# Altium integrated library Capacitor - Aluminium TH.IntLib: 4591 symbols (part 38 of 68)
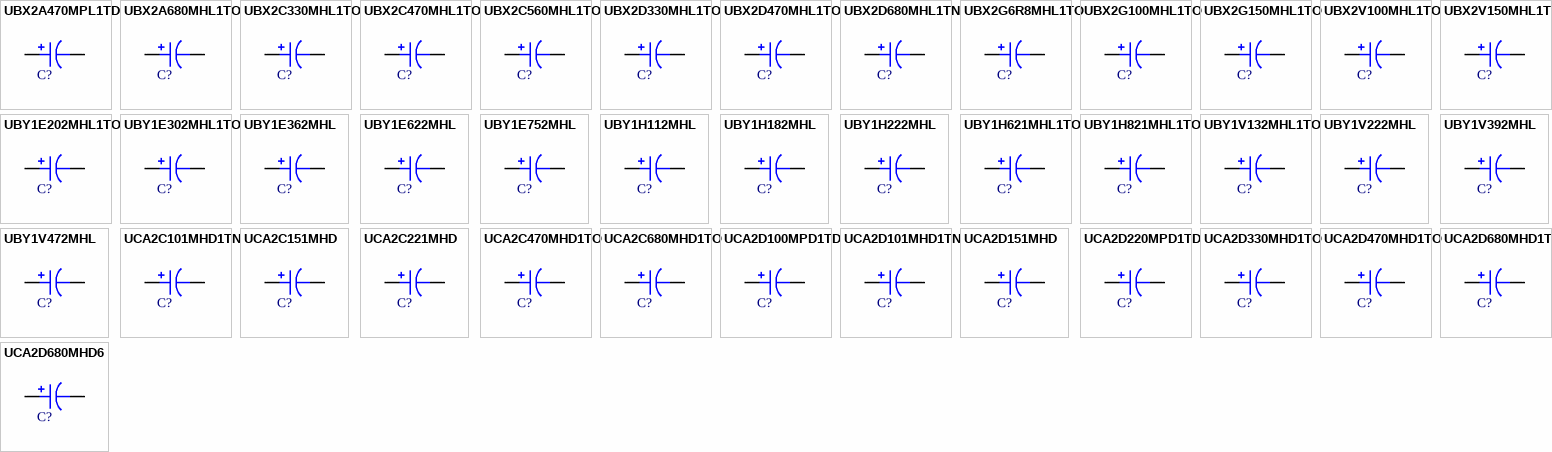
[diagram p151: symbols UBX2A470MPL1TD to UCA2D680MHD6]

## UBX2G100MHL1TO
designator C?, comment 10uF  (value not drawn)
CAP ALUM 10UF 20% 400V RADIAL; Part Number: UBX2G100MHL1TO; Manufacturer: Nichicon; TemperatureRange: -25C ~ 150C; Type: Polar; Ripple Current: 105mA; Value: 10uF; PartId: 23779; Supplier 1: Digi-Key; Supplier Part Number 1: 493-13249-1-ND; ComponentLink1Description: Datasheet; ComponentLink1URL: http://nichicon-us.com/english/products/pdfs/e-ubx.pdf; ComponentLink2Description: Digi-Key Listing; ComponentLink2URL: https://www.digikey.com/product-detail/en/nichicon/UBX2G100MHL1TO/493-13249-1-ND/4333259; Tolerance: 20%; Voltage: 400V; Price: 2.58; Device Package: Radial, Can, 12.5mm
footprint CAP AL TH D12.5 L5 H26.5
pins: 1, 2

## UBX2G150MHL1TO
designator C?, comment 15uF  (value not drawn)
CAP ALUM 15UF 20% 400V RADIAL; Part Number: UBX2G150MHL1TO; Manufacturer: Nichicon; TemperatureRange: -25C ~ 150C; Type: Polar; Ripple Current: 105mA; Value: 15uF; PartId: 23778; Supplier 1: Digi-Key; Supplier Part Number 1: 493-13250-1-ND; ComponentLink1Description: Datasheet; ComponentLink1URL: http://nichicon-us.com/english/products/pdfs/e-ubx.pdf; ComponentLink2Description: Digi-Key Listing; ComponentLink2URL: https://www.digikey.com/product-detail/en/nichicon/UBX2G150MHL1TO/493-13250-1-ND/4333260; Tolerance: 20%; Voltage: 400V; Price: 2.58; Device Package: Radial, Can, 12.5mm
footprint CAP AL TH D12.5 L5 H26.5
pins: 1, 2

## UBX2V100MHL1TO
designator C?, comment 10uF  (value not drawn)
CAP ALUM 10UF 20% 350V RADIAL; Part Number: UBX2V100MHL1TO; Manufacturer: Nichicon; TemperatureRange: -25C ~ 150C; Type: Polar; Ripple Current: 120mA; Value: 10uF; PartId: 23081; Supplier 1: Digi-Key; Supplier Part Number 1: 493-13253-1-ND; ComponentLink1Description: Datasheet; ComponentLink1URL: http://nichicon-us.com/english/products/pdfs/e-ubx.pdf; ComponentLink2Description: Digi-Key Listing; ComponentLink2URL: https://www.digikey.com/product-detail/en/nichicon/UBX2V100MHL1TO/493-13253-1-ND/4333263; Tolerance: 20%; Voltage: 350V; Price: 0; Device Package: Radial, Can, 12.5mm
footprint CAP AL TH D12.5 L5 H21.5
pins: 1, 2

## UBX2V150MHL1TO
designator C?, comment 15uF  (value not drawn)
CAP ALUM 15UF 20% 350V RADIAL; Part Number: UBX2V150MHL1TO; Manufacturer: Nichicon; TemperatureRange: -25C ~ 150C; Type: Polar; Ripple Current: 130mA; Value: 15uF; PartId: 23777; Supplier 1: Digi-Key; Supplier Part Number 1: 493-13254-1-ND; ComponentLink1Description: Datasheet; ComponentLink1URL: http://nichicon-us.com/english/products/pdfs/e-ubx.pdf; ComponentLink2Description: Digi-Key Listing; ComponentLink2URL: https://www.digikey.com/product-detail/en/nichicon/UBX2V150MHL1TO/493-13254-1-ND/4333264; Tolerance: 20%; Voltage: 350V; Price: 2.58; Device Package: Radial, Can, 12.5mm
footprint CAP AL TH D12.5 L5 H26.5
pins: 1, 2

## UBY1E202MHL1TO
designator C?, comment 2000uF  (value not drawn)
CAP ALUM 2000UF 20% 25V RADIAL; Part Number: UBY1E202MHL1TO; Manufacturer: Nichicon; TemperatureRange: -40C ~ 135C; Type: Polar; Ripple Current: 1.014A @ 120Hz; Value: 2000uF; PartId: 23079; Supplier 1: Digi-Key; Supplier Part Number 1: 493-14650-1-ND; ComponentLink1Description: Datasheet; ComponentLink1URL: http://nichicon-us.com/english/products/pdfs/UBY_e.pdf; ComponentLink2Description: Digi-Key Listing; ComponentLink2URL: https://www.digikey.com/product-detail/en/nichicon/UBY1E202MHL1TO/493-14650-1-ND/5818417; Tolerance: 20%; Voltage: 25V; Price: 0; Device Package: Radial, Can, 12.5mm
footprint CAP AL TH D12.5 L5 H21.5
pins: 1, 2

## UBY1E302MHL1TO
designator C?, comment 3000uF  (value not drawn)
CAP ALUM 3000UF 20% 25V RADIAL; Part Number: UBY1E302MHL1TO; Manufacturer: Nichicon; TemperatureRange: -40C ~ 135C; Type: Polar; Ripple Current: 1.508A @ 120Hz; Value: 3000uF; PartId: 23780; Supplier 1: Digi-Key; Supplier Part Number 1: 493-14651-1-ND; ComponentLink1Description: Datasheet; ComponentLink1URL: http://nichicon-us.com/english/products/pdfs/UBY_e.pdf; ComponentLink2Description: Digi-Key Listing; ComponentLink2URL: https://www.digikey.com/product-detail/en/nichicon/UBY1E302MHL1TO/493-14651-1-ND/5818418; Tolerance: 20%; Voltage: 25V; Price: 3.06; Device Package: Radial, Can, 12.5mm
footprint CAP AL TH D12.5 L5 H26.5
pins: 1, 2

## UBY1E362MHL
designator C?, comment 3600uF  (value not drawn)
CAP ALUM 3600UF 20% 25V RADIAL; Part Number: UBY1E362MHL; Manufacturer: Nichicon; TemperatureRange: -40C ~ 135C; Type: Polar; Ripple Current: 2.175A @ 120Hz; Value: 3600uF; PartId: 24431; Supplier 1: Digi-Key; Supplier Part Number 1: 493-14624-ND; ComponentLink1Description: Datasheet; ComponentLink1URL: http://nichicon-us.com/english/products/pdfs/UBY_e.pdf; ComponentLink2Description: Digi-Key Listing; ComponentLink2URL: https://www.digikey.com/product-detail/en/nichicon/UBY1E362MHL/493-14624-ND/5818373; Tolerance: 20%; Voltage: 25V; Price: 3.23; Device Package: Radial, Can, 12.5mm
footprint CAP AL TH D12.5 L5 H35.5
pins: 1, 2

## UBY1E622MHL
designator C?, comment 6200uF  (value not drawn)
CAP ALUM 6200UF 20% 25V RADIAL; Part Number: UBY1E622MHL; Manufacturer: Nichicon; TemperatureRange: -40C ~ 135C; Type: Polar; Ripple Current: 2.89A @ 120Hz; Value: 6200uF; PartId: 27305; Supplier 1: Digi-Key; Supplier Part Number 1: 493-14626-ND; ComponentLink1Description: Datasheet; ComponentLink1URL: http://nichicon-us.com/english/products/pdfs/UBY_e.pdf; ComponentLink2Description: Digi-Key Listing; ComponentLink2URL: https://www.digikey.com/product-detail/en/nichicon/UBY1E622MHL/493-14626-ND/5818375; Tolerance: 20%; Voltage: 25V; Price: 3.96; Device Package: Radial, Can, 16mm
footprint CAP AL TH D16 L7.5 H33.5
pins: 1, 2

## UBY1E752MHL
designator C?, comment 7500uF  (value not drawn)
CAP ALUM 7500UF 20% 25V RADIAL; Part Number: UBY1E752MHL; Manufacturer: Nichicon; TemperatureRange: -40C ~ 135C; Type: Polar; Ripple Current: 3.086A @ 120Hz; Value: 7500uF; PartId: 27453; Supplier 1: Digi-Key; Supplier Part Number 1: 493-14627-ND; ComponentLink1Description: Datasheet; ComponentLink1URL: http://nichicon-us.com/english/products/pdfs/UBY_e.pdf; ComponentLink2Description: Digi-Key Listing; ComponentLink2URL: https://www.digikey.com/product-detail/en/nichicon/UBY1E752MHL/493-14627-ND/5818376; Tolerance: 20%; Voltage: 25V; Price: 4.69; Device Package: Radial, Can, 16mm
footprint CAP AL TH D16 L7.5 H37
pins: 1, 2

## UBY1H112MHL
designator C?, comment 1100uF  (value not drawn)
CAP ALUM 1100UF 20% 50V RADIAL; Part Number: UBY1H112MHL; Manufacturer: Nichicon; TemperatureRange: -40C ~ 135C; Type: Polar; Ripple Current: 1.512A @ 120Hz; Value: 1100uF; PartId: 24428; Supplier 1: Digi-Key; Supplier Part Number 1: 493-14641-ND; ComponentLink1Description: Datasheet; ComponentLink1URL: http://nichicon-us.com/english/products/pdfs/UBY_e.pdf; ComponentLink2Description: Digi-Key Listing; ComponentLink2URL: https://www.digikey.com/product-detail/en/nichicon/UBY1H112MHL/493-14641-ND/5818390; Tolerance: 20%; Voltage: 50V; Price: 2.9; Device Package: Radial, Can, 12.5mm
footprint CAP AL TH D12.5 L5 H35.5
pins: 1, 2

## UBY1H182MHL
designator C?, comment 1800uF  (value not drawn)
CAP ALUM 1800UF 20% 50V RADIAL; Part Number: UBY1H182MHL; Manufacturer: Nichicon; TemperatureRange: -40C ~ 135C; Type: Polar; Ripple Current: 1.776A @ 120Hz; Value: 1800uF; PartId: 27304; Supplier 1: Digi-Key; Supplier Part Number 1: 493-14644-ND; ComponentLink1Description: Datasheet; ComponentLink1URL: http://nichicon-us.com/english/products/pdfs/UBY_e.pdf; ComponentLink2Description: Digi-Key Listing; ComponentLink2URL: https://www.digikey.com/product-detail/en/nichicon/UBY1H182MHL/493-14644-ND/5818393; Tolerance: 20%; Voltage: 50V; Price: 3.91; Device Package: Radial, Can, 16mm
footprint CAP AL TH D16 L7.5 H33.5
pins: 1, 2

## UBY1H222MHL
designator C?, comment 2200uF  (value not drawn)
CAP ALUM 2200UF 20% 50V RADIAL; Part Number: UBY1H222MHL; Manufacturer: Nichicon; TemperatureRange: -40C ~ 135C; Type: Polar; Ripple Current: 2.37A @ 120Hz; Value: 2200uF; PartId: 27452; Supplier 1: Digi-Key; Supplier Part Number 1: 493-14645-ND; ComponentLink1Description: Datasheet; ComponentLink1URL: http://nichicon-us.com/english/products/pdfs/UBY_e.pdf; ComponentLink2Description: Digi-Key Listing; ComponentLink2URL: https://www.digikey.com/product-detail/en/nichicon/UBY1H222MHL/493-14645-ND/5818394; Tolerance: 20%; Voltage: 50V; Price: 4.55; Device Package: Radial, Can, 16mm
footprint CAP AL TH D16 L7.5 H37
pins: 1, 2

## UBY1H621MHL1TO
designator C?, comment 620uF  (value not drawn)
CAP ALUM 620UF 20% 50V RADIAL; Part Number: UBY1H621MHL1TO; Manufacturer: Nichicon; TemperatureRange: -40C ~ 135C; Type: Polar; Ripple Current: 882mA @ 120Hz; Value: 620uF; PartId: 23076; Supplier 1: Digi-Key; Supplier Part Number 1: 493-14662-1-ND; ComponentLink1Description: Datasheet; ComponentLink1URL: http://nichicon-us.com/english/products/pdfs/UBY_e.pdf; ComponentLink2Description: Digi-Key Listing; ComponentLink2URL: https://www.digikey.com/product-detail/en/nichicon/UBY1H621MHL1TO/493-14662-1-ND/5818429; Tolerance: 20%; Voltage: 50V; Price: 0; Device Package: Radial, Can, 12.5mm
footprint CAP AL TH D12.5 L5 H21.5
pins: 1, 2

## UBY1H821MHL1TO
designator C?, comment 820uF  (value not drawn)
CAP ALUM 820UF 20% 50V RADIAL; Part Number: UBY1H821MHL1TO; Manufacturer: Nichicon; TemperatureRange: -40C ~ 135C; Type: Polar; Ripple Current: 1.356A @ 120Hz; Value: 820uF; PartId: 23776; Supplier 1: Digi-Key; Supplier Part Number 1: 493-14663-1-ND; ComponentLink1Description: Datasheet; ComponentLink1URL: http://nichicon-us.com/english/products/pdfs/UBY_e.pdf; ComponentLink2Description: Digi-Key Listing; ComponentLink2URL: https://www.digikey.com/product-detail/en/nichicon/UBY1H821MHL1TO/493-14663-1-ND/5818430; Tolerance: 20%; Voltage: 50V; Price: 2.52; Device Package: Radial, Can, 12.5mm
footprint CAP AL TH D12.5 L5 H26.5
pins: 1, 2

## UBY1V132MHL1TO
designator C?, comment 1300uF  (value not drawn)
CAP ALUM 1300UF 20% 35V RADIAL; Part Number: UBY1V132MHL1TO; Manufacturer: Nichicon; TemperatureRange: -40C ~ 135C; Type: Polar; Ripple Current: 1.014A @ 120Hz; Value: 1300uF; PartId: 23080; Supplier 1: Digi-Key; Supplier Part Number 1: 493-14656-1-ND; ComponentLink1Description: Datasheet; ComponentLink1URL: http://nichicon-us.com/english/products/pdfs/UBY_e.pdf; ComponentLink2Description: Digi-Key Listing; ComponentLink2URL: https://www.digikey.com/product-detail/en/nichicon/UBY1V132MHL1TO/493-14656-1-ND/5818423; Tolerance: 20%; Voltage: 35V; Price: 0; Device Package: Radial, Can, 12.5mm
footprint CAP AL TH D12.5 L5 H21.5
pins: 1, 2

## UBY1V222MHL
designator C?, comment 2200uF  (value not drawn)
CAP ALUM 2200UF 20% 35V RADIAL; Part Number: UBY1V222MHL; Manufacturer: Nichicon; TemperatureRange: -40C ~ 135C; Type: Polar; Ripple Current: 2.175A @ 120Hz; Value: 2200uF; PartId: 24430; Supplier 1: Digi-Key; Supplier Part Number 1: 493-14632-ND; ComponentLink1Description: Datasheet; ComponentLink1URL: http://nichicon-us.com/english/products/pdfs/UBY_e.pdf; ComponentLink2Description: Digi-Key Listing; ComponentLink2URL: https://www.digikey.com/product-detail/en/nichicon/UBY1V222MHL/493-14632-ND/5818381; Tolerance: 20%; Voltage: 35V; Price: 3.11; Device Package: Radial, Can, 12.5mm
footprint CAP AL TH D12.5 L5 H35.5
pins: 1, 2

## UBY1V392MHL
designator C?, comment 3900uF  (value not drawn)
CAP ALUM 3900UF 20% 35V RADIAL; Part Number: UBY1V392MHL; Manufacturer: Nichicon; TemperatureRange: -40C ~ 135C; Type: Polar; Ripple Current: 2.55A @ 120Hz; Value: 3900uF; PartId: 27307; Supplier 1: Digi-Key; Supplier Part Number 1: 493-14635-ND; ComponentLink1Description: Datasheet; ComponentLink1URL: http://nichicon-us.com/english/products/pdfs/UBY_e.pdf; ComponentLink2Description: Digi-Key Listing; ComponentLink2URL: https://www.digikey.com/product-detail/en/nichicon/UBY1V392MHL/493-14635-ND/5818384; Tolerance: 20%; Voltage: 35V; Price: 4.08; Device Package: Radial, Can, 16mm
footprint CAP AL TH D16 L7.5 H33.5
pins: 1, 2

## UBY1V472MHL
designator C?, comment 4700uF  (value not drawn)
CAP ALUM 4700UF 20% 35V RADIAL; Part Number: UBY1V472MHL; Manufacturer: Nichicon; TemperatureRange: -40C ~ 135C; Type: Polar; Ripple Current: 3.086A @ 120Hz; Value: 4700uF; PartId: 27454; Supplier 1: Digi-Key; Supplier Part Number 1: 493-14636-ND; ComponentLink1Description: Datasheet; ComponentLink1URL: http://nichicon-us.com/english/products/pdfs/UBY_e.pdf; ComponentLink2Description: Digi-Key Listing; ComponentLink2URL: https://www.digikey.com/product-detail/en/nichicon/UBY1V472MHL/493-14636-ND/5818385; Tolerance: 20%; Voltage: 35V; Price: 4.76; Device Package: Radial, Can, 16mm
footprint CAP AL TH D16 L7.5 H37
pins: 1, 2

## UCA2C101MHD1TN
designator C?, comment 100uF  (value not drawn)
CAP ALUM 100UF 20% 160V RADIAL; Part Number: UCA2C101MHD1TN; Manufacturer: Nichicon; TemperatureRange: -25C ~ 105C; Type: Polar; Ripple Current: 640mA @ 120Hz; Value: 100uF; PartId: 26521; Supplier 1: Digi-Key; Supplier Part Number 1: 493-4757-3-ND; ComponentLink1Description: Datasheet; ComponentLink1URL: http://nichicon-us.com/english/products/pdfs/e-uca.pdf; ComponentLink2Description: Digi-Key Listing; ComponentLink2URL: https://www.digikey.com/product-detail/en/nichicon/UCA2C101MHD1TN/493-4757-3-ND/3129770; Tolerance: 20%; Voltage: 160V; Price: 0.643; Device Package: Radial, Can, 16mm
footprint CAP AL TH D16 L7.5 H26.5
pins: 1, 2

## UCA2C151MHD
designator C?, comment 150uF  (value not drawn)
CAP ALUM 150UF 20% 160V RADIAL; Part Number: UCA2C151MHD; Manufacturer: Nichicon; TemperatureRange: -25C ~ 105C; Type: Polar; Ripple Current: 680mA @ 120Hz; Value: 150uF; PartId: 27046; Supplier 1: Digi-Key; Supplier Part Number 1: 493-5441-ND; ComponentLink1Description: Datasheet; ComponentLink1URL: http://nichicon-us.com/english/products/pdfs/e-uca.pdf; ComponentLink2Description: Digi-Key Listing; ComponentLink2URL: https://www.digikey.com/product-detail/en/nichicon/UCA2C151MHD/493-5441-ND/2597616; Tolerance: 20%; Voltage: 160V; Price: 1.55; Device Package: Radial, Can, 16mm
footprint CAP AL TH D16 L7.5 H33.5
pins: 1, 2

## UCA2C221MHD
designator C?, comment 220uF  (value not drawn)
CAP ALUM 220UF 20% 160V RADIAL; Part Number: UCA2C221MHD; Manufacturer: Nichicon; TemperatureRange: -25C ~ 105C; Type: Polar; Ripple Current: 700mA @ 120Hz; Value: 220uF; PartId: 27050; Supplier 1: Digi-Key; Supplier Part Number 1: 493-13064-ND; ComponentLink1Description: Datasheet; ComponentLink1URL: http://nichicon-us.com/english/products/pdfs/e-uca.pdf; ComponentLink2Description: Digi-Key Listing; ComponentLink2URL: https://www.digikey.com/product-detail/en/nichicon/UCA2C221MHD/493-13064-ND/2597619; Tolerance: 20%; Voltage: 160V; Price: 1.56; Device Package: Radial, Can, 16mm
footprint CAP AL TH D16 L7.5 H33.5
pins: 1, 2

## UCA2C470MHD1TO
designator C?, comment 47uF  (value not drawn)
CAP ALUM 47UF 20% 160V RADIAL; Part Number: UCA2C470MHD1TO; Manufacturer: Nichicon; TemperatureRange: -25C ~ 105C; Ripple Current: 725mA; Value: 47uF; PartId: 23008; Supplier 1: Digi-Key; Supplier Part Number 1: 493-13260-1-ND; ComponentLink1Description: Datasheet; ComponentLink1URL: http://nichicon-us.com/english/products/pdfs/e-uca.pdf; ComponentLink2Description: Digi-Key Listing; ComponentLink2URL: https://www.digikey.com/product-detail/en/nichicon/UCA2C470MHD1TO/493-13260-1-ND/4333003; Tolerance: 20%; Voltage: 160V; Price: 0; Device Package: Radial, Can, 12.5mm
footprint CAP AL TH D12.5 L5 H21.5
pins: 1, 2

## UCA2C680MHD1TO
designator C?, comment 68uF  (value not drawn)
CAP ALUM 68UF 20% 160V RADIAL; Part Number: UCA2C680MHD1TO; Manufacturer: Nichicon; TemperatureRange: -25C ~ 105C; Type: Polar; Ripple Current: 475mA @ 120Hz; Value: 68uF; PartId: 23632; Supplier 1: Digi-Key; Supplier Part Number 1: 493-4760-3-ND; ComponentLink1Description: Datasheet; ComponentLink1URL: http://nichicon-us.com/english/products/pdfs/e-uca.pdf; ComponentLink2Description: Digi-Key Listing; ComponentLink2URL: https://www.digikey.com/product-detail/en/nichicon/UCA2C680MHD1TO/493-4760-3-ND/3129772; Tolerance: 20%; Voltage: 160V; Price: 0.4678; Device Package: Radial, Can, 12.5mm
footprint CAP AL TH D12.5 L5 H26.5
pins: 1, 2

## UCA2D100MPD1TD
designator C?, comment 10uF  (value not drawn)
CAP ALUM 10UF 20% 200V RADIAL; Part Number: UCA2D100MPD1TD; Manufacturer: Nichicon; TemperatureRange: -25C ~ 105C; Type: Polar; Ripple Current: 125mA @ 120Hz; Value: 10uF; PartId: 25101; Supplier 1: Digi-Key; Supplier Part Number 1: 493-4762-3-ND; ComponentLink1Description: Datasheet; ComponentLink1URL: http://nichicon-us.com/english/products/pdfs/e-uca.pdf; ComponentLink2Description: Digi-Key Listing; ComponentLink2URL: https://www.digikey.com/product-detail/en/nichicon/UCA2D100MPD1TD/493-4762-3-ND/3129773; Tolerance: 20%; Voltage: 200V; Price: 0.2871; Device Package: Radial, Can, 10mm
footprint CAP AL TH D10 L5 H17.5
pins: 1, 2

## UCA2D101MHD1TN
designator C?, comment 100uF  (value not drawn)
CAP ALUM 100UF 20% 200V RADIAL; Part Number: UCA2D101MHD1TN; Manufacturer: Nichicon; TemperatureRange: -25C ~ 105C; Type: Polar; Ripple Current: 640mA @ 120Hz; Value: 100uF; PartId: 26524; Supplier 1: Digi-Key; Supplier Part Number 1: 493-4763-3-ND; ComponentLink1Description: Datasheet; ComponentLink1URL: http://nichicon-us.com/english/products/pdfs/e-uca.pdf; ComponentLink2Description: Digi-Key Listing; ComponentLink2URL: https://www.digikey.com/product-detail/en/nichicon/UCA2D101MHD1TN/493-4763-3-ND/3129774; Tolerance: 20%; Voltage: 200V; Price: 0.696; Device Package: Radial, Can, 16mm
footprint CAP AL TH D16 L7.5 H26.5
pins: 1, 2

## UCA2D151MHD
designator C?, comment 150uF  (value not drawn)
CAP ALUM 150UF 20% 200V RADIAL; Part Number: UCA2D151MHD; Manufacturer: Nichicon; TemperatureRange: -25C ~ 105C; Type: Polar; Ripple Current: 680mA @ 120Hz; Value: 150uF; PartId: 27172; Supplier 1: Digi-Key; Supplier Part Number 1: 493-5442-ND; ComponentLink1Description: Datasheet; ComponentLink1URL: http://nichicon-us.com/english/products/pdfs/e-uca.pdf; ComponentLink2Description: Digi-Key Listing; ComponentLink2URL: https://www.digikey.com/product-detail/en/nichicon/UCA2D151MHD/493-5442-ND/2597628; Tolerance: 20%; Voltage: 200V; Price: 1.9; Device Package: Radial, Can, 16mm
footprint CAP AL TH D16 L7.5 H33.5
pins: 1, 2

## UCA2D220MPD1TD
designator C?, comment 22uF  (value not drawn)
CAP ALUM 22UF 20% 200V RADIAL; Part Number: UCA2D220MPD1TD; Manufacturer: Nichicon; TemperatureRange: -25C ~ 105C; Type: Polar; Ripple Current: 250mA @ 120Hz; Value: 22uF; PartId: 25454; Supplier 1: Digi-Key; Supplier Part Number 1: 493-4765-3-ND; ComponentLink1Description: Datasheet; ComponentLink1URL: http://nichicon-us.com/english/products/pdfs/e-uca.pdf; ComponentLink2Description: Digi-Key Listing; ComponentLink2URL: https://www.digikey.com/product-detail/en/nichicon/UCA2D220MPD1TD/493-4765-3-ND/3129775; Tolerance: 20%; Voltage: 200V; Price: 0.1984; Device Package: Radial, Can, 10mm
footprint CAP AL TH D10 L5 H22
pins: 1, 2

## UCA2D330MHD1TO
designator C?, comment 33uF  (value not drawn)
CAP ALUM 33UF 20% 200V RADIAL; Part Number: UCA2D330MHD1TO; Manufacturer: Nichicon; TemperatureRange: -25C ~ 105C; Ripple Current: 600mA; Value: 33uF; PartId: 22953; Supplier 1: Digi-Key; Supplier Part Number 1: 493-4766-1-ND; ComponentLink1Description: Datasheet; ComponentLink1URL: http://nichicon-us.com/english/products/pdfs/e-uca.pdf; ComponentLink2Description: Digi-Key Listing; ComponentLink2URL: https://www.digikey.com/product-detail/en/nichicon/UCA2D330MHD1TO/493-4766-1-ND/3129108; Tolerance: 20%; Voltage: 200V; Price: 0; Device Package: Radial, Can, 12.5mm
footprint CAP AL TH D12.5 L5 H21.5
pins: 1, 2

## UCA2D470MHD1TO
designator C?, comment 47uF  (value not drawn)
CAP ALUM 47UF 20% 200V RADIAL; Part Number: UCA2D470MHD1TO; Manufacturer: Nichicon; TemperatureRange: -25C ~ 105C; Ripple Current: 780mA; Value: 47uF; PartId: 23020; Supplier 1: Digi-Key; Supplier Part Number 1: 493-13262-1-ND; ComponentLink1Description: Datasheet; ComponentLink1URL: http://nichicon-us.com/english/products/pdfs/e-uca.pdf; ComponentLink2Description: Digi-Key Listing; ComponentLink2URL: https://www.digikey.com/product-detail/en/nichicon/UCA2D470MHD1TO/493-13262-1-ND/4333005; Tolerance: 20%; Voltage: 200V; Price: 0; Device Package: Radial, Can, 12.5mm
footprint CAP AL TH D12.5 L5 H21.5
pins: 1, 2

## UCA2D680MHD1TO
designator C?, comment 68uF  (value not drawn)
CAP ALUM 68UF 20% 200V RADIAL; Part Number: UCA2D680MHD1TO; Manufacturer: Nichicon; TemperatureRange: -25C ~ 105C; Ripple Current: 950mA; Value: 68uF; PartId: 23691; Supplier 1: Digi-Key; Supplier Part Number 1: 493-13263-1-ND; ComponentLink1Description: Datasheet; ComponentLink1URL: http://nichicon-us.com/english/products/pdfs/e-uca.pdf; ComponentLink2Description: Digi-Key Listing; ComponentLink2URL: https://www.digikey.com/product-detail/en/nichicon/UCA2D680MHD1TO/493-13263-1-ND/4333006; Tolerance: 20%; Voltage: 200V; Price: 1.05; Device Package: Radial, Can, 12.5mm
footprint CAP AL TH D12.5 L5 H26.5
pins: 1, 2

## UCA2D680MHD6
designator C?, comment 68uF  (value not drawn)
CAP ALUM 68UF 20% 200V RADIAL; Part Number: UCA2D680MHD6; Manufacturer: Nichicon; TemperatureRange: -25C ~ 105C; Type: Polar; Ripple Current: 485mA @ 120Hz; Value: 68uF; PartId: 26405; Supplier 1: Digi-Key; Supplier Part Number 1: 493-14733-ND; ComponentLink1Description: Datasheet; ComponentLink1URL: http://nichicon-us.com/english/products/pdfs/e-uca.pdf; ComponentLink2Description: Digi-Key Listing; ComponentLink2URL: https://www.digikey.com/product-detail/en/nichicon/UCA2D680MHD6/493-14733-ND/2597634; Tolerance: 20%; Voltage: 200V; Price: 0.99; Device Package: Radial, Can, 16mm
footprint CAP AL TH D16 L7.5 H22
pins: 1, 2

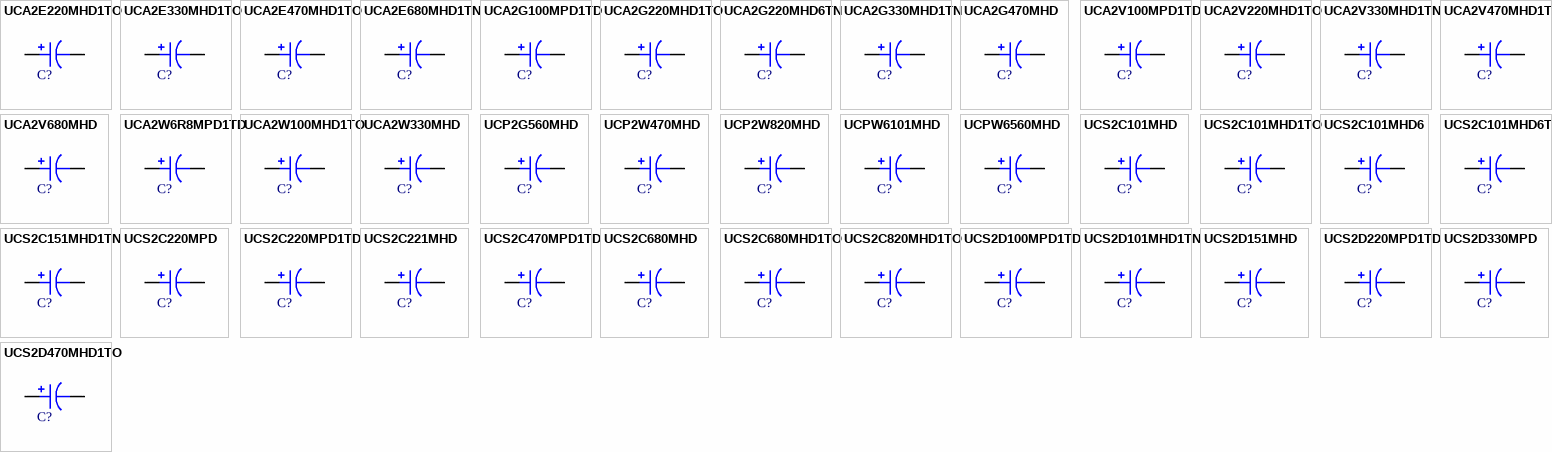
[diagram p62: symbols UCA2E220MHD1TO to UCS2D470MHD1TO]

## UCA2E220MHD1TO
designator C?, comment 22uF  (value not drawn)
CAP ALUM 22UF 20% 250V RADIAL; Part Number: UCA2E220MHD1TO; Manufacturer: Nichicon; TemperatureRange: -25C ~ 105C; Ripple Current: 600mA; Value: 22uF; PartId: 22967; Supplier 1: Digi-Key; Supplier Part Number 1: 493-4767-1-ND; ComponentLink1Description: Datasheet; ComponentLink1URL: http://nichicon-us.com/english/products/pdfs/e-uca.pdf; ComponentLink2Description: Digi-Key Listing; ComponentLink2URL: https://www.digikey.com/product-detail/en/nichicon/UCA2E220MHD1TO/493-4767-1-ND/3129109; Tolerance: 20%; Voltage: 250V; Price: 0; Device Package: Radial, Can, 12.5mm
footprint CAP AL TH D12.5 L5 H21.5
pins: 1, 2

## UCA2E330MHD1TO
designator C?, comment 33uF  (value not drawn)
CAP ALUM 33UF 20% 250V RADIAL; Part Number: UCA2E330MHD1TO; Manufacturer: Nichicon; TemperatureRange: -25C ~ 105C; Ripple Current: 630mA; Value: 33uF; PartId: 22999; Supplier 1: Digi-Key; Supplier Part Number 1: 493-4768-1-ND; ComponentLink1Description: Datasheet; ComponentLink1URL: http://nichicon-us.com/english/products/pdfs/e-uca.pdf; ComponentLink2Description: Digi-Key Listing; ComponentLink2URL: https://www.digikey.com/product-detail/en/nichicon/UCA2E330MHD1TO/493-4768-1-ND/3129110; Tolerance: 20%; Voltage: 250V; Price: 0; Device Package: Radial, Can, 12.5mm
footprint CAP AL TH D12.5 L5 H21.5
pins: 1, 2

## UCA2E470MHD1TO
designator C?, comment 47uF  (value not drawn)
CAP ALUM 47UF 20% 250V RADIAL; Part Number: UCA2E470MHD1TO; Manufacturer: Nichicon; TemperatureRange: -25C ~ 105C; Ripple Current: 720mA; Value: 47uF; PartId: 23712; Supplier 1: Digi-Key; Supplier Part Number 1: 493-13267-1-ND; ComponentLink1Description: Datasheet; ComponentLink1URL: http://nichicon-us.com/english/products/pdfs/e-uca.pdf; ComponentLink2Description: Digi-Key Listing; ComponentLink2URL: https://www.digikey.com/product-detail/en/nichicon/UCA2E470MHD1TO/493-13267-1-ND/4333010; Tolerance: 20%; Voltage: 250V; Price: 1.17; Device Package: Radial, Can, 12.5mm
footprint CAP AL TH D12.5 L5 H26.5
pins: 1, 2

## UCA2E680MHD1TN
designator C?, comment 68uF  (value not drawn)
CAP ALUM 68UF 20% 250V RADIAL; Part Number: UCA2E680MHD1TN; Manufacturer: Nichicon; TemperatureRange: -25C ~ 105C; Type: Polar; Ripple Current: 500mA @ 120Hz; Value: 68uF; PartId: 26522; Supplier 1: Digi-Key; Supplier Part Number 1: 493-4769-3-ND; ComponentLink1Description: Datasheet; ComponentLink1URL: http://nichicon-us.com/english/products/pdfs/e-uca.pdf; ComponentLink2Description: Digi-Key Listing; ComponentLink2URL: https://www.digikey.com/product-detail/en/nichicon/UCA2E680MHD1TN/493-4769-3-ND/3129779; Tolerance: 20%; Voltage: 250V; Price: 0.6682; Device Package: Radial, Can, 16mm
footprint CAP AL TH D16 L7.5 H26.5
pins: 1, 2

## UCA2G100MPD1TD
designator C?, comment 10uF  (value not drawn)
CAP ALUM 10UF 20% 400V RADIAL; Part Number: UCA2G100MPD1TD; Manufacturer: Nichicon; TemperatureRange: -25C ~ 105C; Type: Polar; Ripple Current: 140mA @ 120Hz; Value: 10uF; PartId: 25460; Supplier 1: Digi-Key; Supplier Part Number 1: 493-4771-3-ND; ComponentLink1Description: Datasheet; ComponentLink1URL: http://nichicon-us.com/english/products/pdfs/e-uca.pdf; ComponentLink2Description: Digi-Key Listing; ComponentLink2URL: https://www.digikey.com/product-detail/en/nichicon/UCA2G100MPD1TD/493-4771-3-ND/3129780; Tolerance: 20%; Voltage: 400V; Price: 0.2574; Device Package: Radial, Can, 10mm
footprint CAP AL TH D10 L5 H22
pins: 1, 2

## UCA2G220MHD1TO
designator C?, comment 22uF  (value not drawn)
CAP ALUM 22UF 20% 400V RADIAL; Part Number: UCA2G220MHD1TO; Manufacturer: Nichicon; TemperatureRange: -25C ~ 105C; Ripple Current: 430mA; Value: 22uF; PartId: 23026; Supplier 1: Digi-Key; Supplier Part Number 1: 493-13269-1-ND; ComponentLink1Description: Datasheet; ComponentLink1URL: http://nichicon-us.com/english/products/pdfs/e-uca.pdf; ComponentLink2Description: Digi-Key Listing; ComponentLink2URL: https://www.digikey.com/product-detail/en/nichicon/UCA2G220MHD1TO/493-13269-1-ND/4333012; Tolerance: 20%; Voltage: 400V; Price: 0; Device Package: Radial, Can, 12.5mm
footprint CAP AL TH D12.5 L5 H21.5
pins: 1, 2

## UCA2G220MHD6TN
designator C?, comment 22uF  (value not drawn)
CAP ALUM 22UF 20% 400V RADIAL; Part Number: UCA2G220MHD6TN; Manufacturer: Nichicon; TemperatureRange: -25C ~ 105C; Type: Polar; Ripple Current: 300mA @ 120Hz; Value: 22uF; PartId: 26379; Supplier 1: Digi-Key; Supplier Part Number 1: 493-4772-3-ND; ComponentLink1Description: Datasheet; ComponentLink1URL: http://nichicon-us.com/english/products/pdfs/e-uca.pdf; ComponentLink2Description: Digi-Key Listing; ComponentLink2URL: https://www.digikey.com/product-detail/en/nichicon/UCA2G220MHD6TN/493-4772-3-ND/3129763; Tolerance: 20%; Voltage: 400V; Price: 0.7258; Device Package: Radial, Can, 16mm
footprint CAP AL TH D16 L7.5 H22
pins: 1, 2

## UCA2G330MHD1TN
designator C?, comment 33uF  (value not drawn)
CAP ALUM 33UF 20% 400V RADIAL; Part Number: UCA2G330MHD1TN; Manufacturer: Nichicon; TemperatureRange: -25C ~ 105C; Type: Polar; Ripple Current: 320mA @ 120Hz; Value: 33uF; PartId: 26526; Supplier 1: Digi-Key; Supplier Part Number 1: 493-4773-3-ND; ComponentLink1Description: Datasheet; ComponentLink1URL: http://nichicon-us.com/english/products/pdfs/e-uca.pdf; ComponentLink2Description: Digi-Key Listing; ComponentLink2URL: https://www.digikey.com/product-detail/en/nichicon/UCA2G330MHD1TN/493-4773-3-ND/3129781; Tolerance: 20%; Voltage: 400V; Price: 0.7362; Device Package: Radial, Can, 16mm
footprint CAP AL TH D16 L7.5 H26.5
pins: 1, 2

## UCA2G470MHD
designator C?, comment 47uF  (value not drawn)
CAP ALUM 47UF 20% 400V RADIAL; Part Number: UCA2G470MHD; Manufacturer: Nichicon; TemperatureRange: -25C ~ 105C; Type: Polar; Ripple Current: 420mA @ 120Hz; Value: 47uF; PartId: 27178; Supplier 1: Digi-Key; Supplier Part Number 1: 493-5444-ND; ComponentLink1Description: Datasheet; ComponentLink1URL: http://nichicon-us.com/english/products/pdfs/e-uca.pdf; ComponentLink2Description: Digi-Key Listing; ComponentLink2URL: https://www.digikey.com/product-detail/en/nichicon/UCA2G470MHD/493-5444-ND/2597650; Tolerance: 20%; Voltage: 400V; Price: 1.94; Device Package: Radial, Can, 16mm
footprint CAP AL TH D16 L7.5 H33.5
pins: 1, 2

## UCA2V100MPD1TD
designator C?, comment 10uF  (value not drawn)
CAP ALUM 10UF 20% 350V RADIAL; Part Number: UCA2V100MPD1TD; Manufacturer: Nichicon; TemperatureRange: -25C ~ 105C; Type: Polar; Ripple Current: 140mA @ 120Hz; Value: 10uF; PartId: 25461; Supplier 1: Digi-Key; Supplier Part Number 1: 493-4775-3-ND; ComponentLink1Description: Datasheet; ComponentLink1URL: http://nichicon-us.com/english/products/pdfs/e-uca.pdf; ComponentLink2Description: Digi-Key Listing; ComponentLink2URL: https://www.digikey.com/product-detail/en/nichicon/UCA2V100MPD1TD/493-4775-3-ND/3129783; Tolerance: 20%; Voltage: 350V; Price: 0.2576; Device Package: Radial, Can, 10mm
footprint CAP AL TH D10 L5 H22
pins: 1, 2

## UCA2V220MHD1TO
designator C?, comment 22uF  (value not drawn)
CAP ALUM 22UF 20% 350V RADIAL; Part Number: UCA2V220MHD1TO; Manufacturer: Nichicon; TemperatureRange: -25C ~ 105C; Ripple Current: 350mA; Value: 22uF; PartId: 23018; Supplier 1: Digi-Key; Supplier Part Number 1: 493-4776-1-ND; ComponentLink1Description: Datasheet; ComponentLink1URL: http://nichicon-us.com/english/products/pdfs/e-uca.pdf; ComponentLink2Description: Digi-Key Listing; ComponentLink2URL: https://www.digikey.com/product-detail/en/nichicon/UCA2V220MHD1TO/493-4776-1-ND/3129116; Tolerance: 20%; Voltage: 350V; Price: 0; Device Package: Radial, Can, 12.5mm
footprint CAP AL TH D12.5 L5 H21.5
pins: 1, 2

## UCA2V330MHD1TN
designator C?, comment 33uF  (value not drawn)
CAP ALUM 33UF 20% 350V RADIAL; Part Number: UCA2V330MHD1TN; Manufacturer: Nichicon; TemperatureRange: -25C ~ 105C; Type: Polar; Ripple Current: 300mA @ 120Hz; Value: 33uF; PartId: 26380; Supplier 1: Digi-Key; Supplier Part Number 1: 493-4777-3-ND; ComponentLink1Description: Datasheet; ComponentLink1URL: http://nichicon-us.com/english/products/pdfs/e-uca.pdf; ComponentLink2Description: Digi-Key Listing; ComponentLink2URL: https://www.digikey.com/product-detail/en/nichicon/UCA2V330MHD1TN/493-4777-3-ND/3129785; Tolerance: 20%; Voltage: 350V; Price: 0.7354; Device Package: Radial, Can, 16mm
footprint CAP AL TH D16 L7.5 H22
pins: 1, 2

## UCA2V470MHD1TN
designator C?, comment 47uF  (value not drawn)
CAP ALUM 47UF 20% 350V RADIAL; Part Number: UCA2V470MHD1TN; Manufacturer: Nichicon; TemperatureRange: -25C ~ 105C; Type: Polar; Ripple Current: 350mA @ 120Hz; Value: 47uF; PartId: 26527; Supplier 1: Digi-Key; Supplier Part Number 1: 493-4778-3-ND; ComponentLink1Description: Datasheet; ComponentLink1URL: http://nichicon-us.com/english/products/pdfs/e-uca.pdf; ComponentLink2Description: Digi-Key Listing; ComponentLink2URL: https://www.digikey.com/product-detail/en/nichicon/UCA2V470MHD1TN/493-4778-3-ND/3129786; Tolerance: 20%; Voltage: 350V; Price: 0.8182; Device Package: Radial, Can, 16mm
footprint CAP AL TH D16 L7.5 H26.5
pins: 1, 2

## UCA2V680MHD
designator C?, comment 68uF  (value not drawn)
CAP ALUM 68UF 20% 350V RADIAL; Part Number: UCA2V680MHD; Manufacturer: Nichicon; TemperatureRange: -25C ~ 105C; Type: Polar; Ripple Current: 550mA @ 120Hz; Value: 68uF; PartId: 27250; Supplier 1: Digi-Key; Supplier Part Number 1: 493-13065-ND; ComponentLink1Description: Datasheet; ComponentLink1URL: http://nichicon-us.com/english/products/pdfs/e-uca.pdf; ComponentLink2Description: Digi-Key Listing; ComponentLink2URL: https://www.digikey.com/product-detail/en/nichicon/UCA2V680MHD/493-13065-ND/2597659; Tolerance: 20%; Voltage: 350V; Price: 2.65; Device Package: Radial, Can, 16mm
footprint CAP AL TH D16 L7.5 H33.5
pins: 1, 2

## UCA2W6R8MPD1TD
designator C?, comment 6.8uF  (value not drawn)
CAP ALUM 6.8UF 20% 450V RADIAL; Part Number: UCA2W6R8MPD1TD; Manufacturer: Nichicon; TemperatureRange: -25C ~ 105C; Type: Polar; Ripple Current: 75mA @ 120Hz; Value: 6.8uF; PartId: 25473; Supplier 1: Digi-Key; Supplier Part Number 1: 493-4783-3-ND; ComponentLink1Description: Datasheet; ComponentLink1URL: http://nichicon-us.com/english/products/pdfs/e-uca.pdf; ComponentLink2Description: Digi-Key Listing; ComponentLink2URL: https://www.digikey.com/product-detail/en/nichicon/UCA2W6R8MPD1TD/493-4783-3-ND/3129788; Tolerance: 20%; Voltage: 450V; Price: 0.2937; Device Package: Radial, Can, 10mm
footprint CAP AL TH D10 L5 H22
pins: 1, 2

## UCA2W100MHD1TO
designator C?, comment 10uF  (value not drawn)
CAP ALUM 10UF 20% 450V RADIAL; Part Number: UCA2W100MHD1TO; Manufacturer: Nichicon; TemperatureRange: -25C ~ 105C; Ripple Current: 320mA; Value: 10uF; PartId: 22983; Supplier 1: Digi-Key; Supplier Part Number 1: 493-4781-1-ND; ComponentLink1Description: Datasheet; ComponentLink1URL: http://nichicon-us.com/english/products/pdfs/e-uca.pdf; ComponentLink2Description: Digi-Key Listing; ComponentLink2URL: https://www.digikey.com/product-detail/en/nichicon/UCA2W100MHD1TO/493-4781-1-ND/3129119; Tolerance: 20%; Voltage: 450V; Price: 0; Device Package: Radial, Can, 12.5mm
footprint CAP AL TH D12.5 L5 H21.5
pins: 1, 2

## UCA2W330MHD
designator C?, comment 33uF  (value not drawn)
CAP ALUM 33UF 20% 450V RADIAL; Part Number: UCA2W330MHD; Manufacturer: Nichicon; TemperatureRange: -25C ~ 105C; Type: Polar; Ripple Current: 350mA @ 120Hz; Value: 33uF; PartId: 27087; Supplier 1: Digi-Key; Supplier Part Number 1: 493-13088-ND; ComponentLink1Description: Datasheet; ComponentLink1URL: http://nichicon-us.com/english/products/pdfs/e-uca.pdf; ComponentLink2Description: Digi-Key Listing; ComponentLink2URL: https://www.digikey.com/product-detail/en/nichicon/UCA2W330MHD/493-13088-ND/4332719; Tolerance: 20%; Voltage: 450V; Price: 1.71; Device Package: Radial, Can, 16mm
footprint CAP AL TH D16 L7.5 H33.5
pins: 1, 2

## UCP2G560MHD
designator C?, comment 56uF  (value not drawn)
CAP ALUM 56UF 20% 400V RADIAL; Part Number: UCP2G560MHD; Manufacturer: Nichicon; TemperatureRange: -25C ~ 105C; Type: Polar; Ripple Current: 470mA @ 120Hz; Value: 56uF; PartId: 24420; Supplier 1: Digi-Key; Supplier Part Number 1: 493-13656-ND; ComponentLink1Description: Datasheet; ComponentLink1URL: http://nichicon-us.com/english/products/pdfs/e-ucp.pdf; ComponentLink2Description: Digi-Key Listing; ComponentLink2URL: https://www.digikey.com/product-detail/en/nichicon/UCP2G560MHD/493-13656-ND/4694955; Tolerance: 20%; Voltage: 400V; Price: 2.22; Device Package: Radial, Can, 12.5mm
footprint CAP AL TH D12.5 L5 H35.5
pins: 1, 2

## UCP2W470MHD
designator C?, comment 47uF  (value not drawn)
CAP ALUM 47UF 20% 450V RADIAL; Part Number: UCP2W470MHD; Manufacturer: Nichicon; TemperatureRange: -25C ~ 105C; Type: Polar; Ripple Current: 430mA @ 120Hz; Value: 47uF; PartId: 24426; Supplier 1: Digi-Key; Supplier Part Number 1: 493-13665-ND; ComponentLink1Description: Datasheet; ComponentLink1URL: http://nichicon-us.com/english/products/pdfs/e-ucp.pdf; ComponentLink2Description: Digi-Key Listing; ComponentLink2URL: https://www.digikey.com/product-detail/en/nichicon/UCP2W470MHD/493-13665-ND/4694964; Tolerance: 20%; Voltage: 450V; Price: 2.44; Device Package: Radial, Can, 12.5mm
footprint CAP AL TH D12.5 L5 H35.5
pins: 1, 2

## UCP2W820MHD
designator C?, comment 82uF  (value not drawn)
CAP ALUM 82UF 20% 450V RADIAL; Part Number: UCP2W820MHD; Manufacturer: Nichicon; TemperatureRange: -25C ~ 105C; Type: Polar; Ripple Current: 640mA @ 120Hz; Value: 82uF; PartId: 27302; Supplier 1: Digi-Key; Supplier Part Number 1: 493-13668-ND; ComponentLink1Description: Datasheet; ComponentLink1URL: http://nichicon-us.com/english/products/pdfs/e-ucp.pdf; ComponentLink2Description: Digi-Key Listing; ComponentLink2URL: https://www.digikey.com/product-detail/en/nichicon/UCP2W820MHD/493-13668-ND/4694967; Tolerance: 20%; Voltage: 450V; Price: 3.7; Device Package: Radial, Can, 16mm
footprint CAP AL TH D16 L7.5 H33.5
pins: 1, 2

## UCPW6101MHD
designator C?, comment 100uF  (value not drawn)
CAP ALUM 100UF 20% 420V RADIAL; Part Number: UCPW6101MHD; Manufacturer: Nichicon; TemperatureRange: -25C ~ 105C; Type: Polar; Ripple Current: 690mA @ 120Hz; Value: 100uF; PartId: 27299; Supplier 1: Digi-Key; Supplier Part Number 1: 493-13669-ND; ComponentLink1Description: Datasheet; ComponentLink1URL: http://nichicon-us.com/english/products/pdfs/e-ucp.pdf; ComponentLink2Description: Digi-Key Listing; ComponentLink2URL: https://www.digikey.com/product-detail/en/nichicon/UCPW6101MHD/493-13669-ND/4694968; Tolerance: 20%; Voltage: 420V; Price: 3.56; Device Package: Radial, Can, 16mm
footprint CAP AL TH D16 L7.5 H33.5
pins: 1, 2

## UCPW6560MHD
designator C?, comment 56uF  (value not drawn)
CAP ALUM 56UF 20% 420V RADIAL; Part Number: UCPW6560MHD; Manufacturer: Nichicon; TemperatureRange: -25C ~ 105C; Type: Polar; Ripple Current: 460mA @ 120Hz; Value: 56uF; PartId: 24423; Supplier 1: Digi-Key; Supplier Part Number 1: 493-13675-ND; ComponentLink1Description: Datasheet; ComponentLink1URL: http://nichicon-us.com/english/products/pdfs/e-ucp.pdf; ComponentLink2Description: Digi-Key Listing; ComponentLink2URL: https://www.digikey.com/product-detail/en/nichicon/UCPW6560MHD/493-13675-ND/4694974; Tolerance: 20%; Voltage: 420V; Price: 2.35; Device Package: Radial, Can, 12.5mm
footprint CAP AL TH D12.5 L5 H35.5
pins: 1, 2

## UCS2C101MHD
designator C?, comment 100uF  (value not drawn)
CAP ALUM 100UF 20% 160V RADIAL; Part Number: UCS2C101MHD; Manufacturer: Nichicon; TemperatureRange: -40C ~ 105C; Type: Polar; Ripple Current: 710mA @ 120Hz; Value: 100uF; PartId: 23724; Supplier 1: Digi-Key; Supplier Part Number 1: 493-5865-ND; ComponentLink1Description: Datasheet; ComponentLink1URL: http://nichicon-us.com/english/products/pdfs/e-ucs.pdf; ComponentLink2Description: Digi-Key Listing; ComponentLink2URL: https://www.digikey.com/product-detail/en/nichicon/UCS2C101MHD/493-5865-ND/3438499; Tolerance: 20%; Voltage: 160V; Price: 1.31; Device Package: Radial, Can, 12.5mm
footprint CAP AL TH D12.5 L5 H26.5
pins: 1, 2

## UCS2C101MHD1TO
designator C?, comment 100uF  (value not drawn)
CAP ALUM 100UF 20% 160V RADIAL; Part Number: UCS2C101MHD1TO; Manufacturer: Nichicon; TemperatureRange: -40C ~ 105C; Type: Polar; Ripple Current: 710mA @ 120Hz; Value: 100uF; PartId: 24139; Supplier 1: Digi-Key; Supplier Part Number 1: 493-13276-1-ND; ComponentLink1Description: Datasheet; ComponentLink1URL: http://nichicon-us.com/english/products/pdfs/e-ucs.pdf; ComponentLink2Description: Digi-Key Listing; ComponentLink2URL: https://www.digikey.com/product-detail/en/nichicon/UCS2C101MHD1TO/493-13276-1-ND/4333019; Tolerance: 20%; Voltage: 160V; Price: 1.47; Device Package: Radial, Can, 12.5mm
footprint CAP AL TH D12.5 L5 H27
pins: 1, 2

## UCS2C101MHD6
designator C?, comment 100uF  (value not drawn)
CAP ALUM 100UF 20% 160V RADIAL; Part Number: UCS2C101MHD6; Manufacturer: Nichicon; TemperatureRange: -40C ~ 105C; Type: Polar; Ripple Current: 710mA @ 120Hz; Value: 100uF; PartId: 26429; Supplier 1: Digi-Key; Supplier Part Number 1: 493-5866-ND; ComponentLink1Description: Datasheet; ComponentLink1URL: http://nichicon-us.com/english/products/pdfs/e-ucs.pdf; ComponentLink2Description: Digi-Key Listing; ComponentLink2URL: https://www.digikey.com/product-detail/en/nichicon/UCS2C101MHD6/493-5866-ND/3438500; Tolerance: 20%; Voltage: 160V; Price: 1.31; Device Package: Radial, Can, 16mm
footprint CAP AL TH D16 L7.5 H22
pins: 1, 2

## UCS2C101MHD6TN
designator C?, comment 100uF  (value not drawn)
CAP ALUM 100UF 20% 160V RADIAL; Part Number: UCS2C101MHD6TN; Manufacturer: Nichicon; TemperatureRange: -40C ~ 105C; Type: Polar; Ripple Current: 710mA @ 120Hz; Value: 100uF; PartId: 26377; Supplier 1: Digi-Key; Supplier Part Number 1: 493-4739-3-ND; ComponentLink1Description: Datasheet; ComponentLink1URL: http://nichicon-us.com/english/products/pdfs/e-ucs.pdf; ComponentLink2Description: Digi-Key Listing; ComponentLink2URL: https://www.digikey.com/product-detail/en/nichicon/UCS2C101MHD6TN/493-4739-3-ND/3128713; Tolerance: 20%; Voltage: 160V; Price: 0.6904; Device Package: Radial, Can, 16mm
footprint CAP AL TH D16 L7.5 H22
pins: 1, 2

## UCS2C151MHD1TN
designator C?, comment 150uF  (value not drawn)
CAP ALUM 150UF 20% 160V RADIAL; Part Number: UCS2C151MHD1TN; Manufacturer: Nichicon; TemperatureRange: -40C ~ 105C; Type: Polar; Ripple Current: 945mA @ 120Hz; Value: 150uF; PartId: 26367; Supplier 1: Digi-Key; Supplier Part Number 1: 493-7378-3-ND; ComponentLink1Description: Datasheet; ComponentLink1URL: http://nichicon-us.com/english/products/pdfs/e-ucs.pdf; ComponentLink2Description: Digi-Key Listing; ComponentLink2URL: https://www.digikey.com/product-detail/en/nichicon/UCS2C151MHD1TN/493-7378-3-ND/3768658; Tolerance: 20%; Voltage: 160V; Price: 0.5688; Device Package: Radial, Can, 16mm
footprint CAP AL TH D16 L7.5 H22
pins: 1, 2

## UCS2C220MPD
designator C?, comment 22uF  (value not drawn)
CAP ALUM 22UF 20% 160V RADIAL; Part Number: UCS2C220MPD; Manufacturer: Nichicon; TemperatureRange: -40C ~ 105C; Type: Polar; Ripple Current: 250mA @ 120Hz; Value: 22uF; PartId: 25540; Supplier 1: Digi-Key; Supplier Part Number 1: 493-14364-ND; ComponentLink1Description: Datasheet; ComponentLink1URL: http://nichicon-us.com/english/products/pdfs/e-ucs.pdf; ComponentLink2Description: Digi-Key Listing; ComponentLink2URL: https://www.digikey.com/product-detail/en/nichicon/UCS2C220MPD/493-14364-ND/4991870; Tolerance: 20%; Voltage: 160V; Price: 0.62; Device Package: Radial, Can, 10mm
footprint CAP AL TH D10 L5 H22
pins: 1, 2

## UCS2C220MPD1TD
designator C?, comment 22uF  (value not drawn)
CAP ALUM 22UF 20% 160V RADIAL; Part Number: UCS2C220MPD1TD; Manufacturer: Nichicon; TemperatureRange: -40C ~ 105C; Type: Polar; Ripple Current: 250mA @ 120Hz; Value: 22uF; PartId: 25760; Supplier 1: Digi-Key; Supplier Part Number 1: 493-7379-3-ND; ComponentLink1Description: Datasheet; ComponentLink1URL: http://nichicon-us.com/english/products/pdfs/e-ucs.pdf; ComponentLink2Description: Digi-Key Listing; ComponentLink2URL: https://www.digikey.com/product-detail/en/nichicon/UCS2C220MPD1TD/493-7379-3-ND/3768661; Tolerance: 20%; Voltage: 160V; Price: 0.2106; Device Package: Radial, Can, 10mm
footprint CAP AL TH D10 L5 H22
pins: 1, 2

## UCS2C221MHD
designator C?, comment 220uF  (value not drawn)
CAP ALUM 220UF 20% 160V RADIAL; Part Number: UCS2C221MHD; Manufacturer: Nichicon; TemperatureRange: -40C ~ 105C; Type: Polar; Ripple Current: 1.185A @ 120Hz; Value: 220uF; PartId: 26602; Supplier 1: Digi-Key; Supplier Part Number 1: 493-5867-ND; ComponentLink1Description: Datasheet; ComponentLink1URL: http://nichicon-us.com/english/products/pdfs/e-ucs.pdf; ComponentLink2Description: Digi-Key Listing; ComponentLink2URL: https://www.digikey.com/product-detail/en/nichicon/UCS2C221MHD/493-5867-ND/3438501; Tolerance: 20%; Voltage: 160V; Price: 1.34; Device Package: Radial, Can, 16mm
footprint CAP AL TH D16 L7.5 H26.5
pins: 1, 2

## UCS2C470MPD1TD
designator C?, comment 47uF  (value not drawn)
CAP ALUM 47UF 20% 160V RADIAL; Part Number: UCS2C470MPD1TD; Manufacturer: Nichicon; TemperatureRange: -40C ~ 105C; Type: Polar; Ripple Current: 375mA @ 120Hz; Value: 47uF; PartId: 25780; Supplier 1: Digi-Key; Supplier Part Number 1: 493-7381-3-ND; ComponentLink1Description: Datasheet; ComponentLink1URL: http://nichicon-us.com/english/products/pdfs/e-ucs.pdf; ComponentLink2Description: Digi-Key Listing; ComponentLink2URL: https://www.digikey.com/product-detail/en/nichicon/UCS2C470MPD1TD/493-7381-3-ND/3768667; Tolerance: 20%; Voltage: 160V; Price: 0.247; Device Package: Radial, Can, 10mm
footprint CAP AL TH D10 L5 H22
pins: 1, 2

## UCS2C680MHD
designator C?, comment 68uF  (value not drawn)
CAP ALUM 68UF 20% 160V RADIAL; Part Number: UCS2C680MHD; Manufacturer: Nichicon; TemperatureRange: -40C ~ 105C; Type: Polar; Ripple Current: 590mA @ 120Hz; Value: 68uF; PartId: 22969; Supplier 1: Digi-Key; Supplier Part Number 1: 493-5869-ND; ComponentLink1Description: Datasheet; ComponentLink1URL: http://nichicon-us.com/english/products/pdfs/e-ucs.pdf; ComponentLink2Description: Digi-Key Listing; ComponentLink2URL: https://www.digikey.com/product-detail/en/nichicon/UCS2C680MHD/493-5869-ND/3438503; Tolerance: 20%; Voltage: 160V; Price: 0; Device Package: Radial, Can, 12.5mm
footprint CAP AL TH D12.5 L5 H21.5
pins: 1, 2

## UCS2C680MHD1TO
designator C?, comment 68uF  (value not drawn)
CAP ALUM 68UF 20% 160V RADIAL; Part Number: UCS2C680MHD1TO; Manufacturer: Nichicon; TemperatureRange: -40C ~ 105C; Type: Polar; Ripple Current: 590mA @ 120Hz; Value: 68uF; PartId: 23169; Supplier 1: Digi-Key; Supplier Part Number 1: 493-13278-3-ND; ComponentLink1Description: Datasheet; ComponentLink1URL: http://nichicon-us.com/english/products/pdfs/e-ucs.pdf; ComponentLink2Description: Digi-Key Listing; ComponentLink2URL: https://www.digikey.com/product-detail/en/nichicon/UCS2C680MHD1TO/493-13278-3-ND/4332909; Tolerance: 20%; Voltage: 160V; Price: 0.3406; Device Package: Radial, Can, 12.5mm
footprint CAP AL TH D12.5 L5 H22
pins: 1, 2

## UCS2C820MHD1TO
designator C?, comment 82uF  (value not drawn)
CAP ALUM 82UF 20% 160V RADIAL; Part Number: UCS2C820MHD1TO; Manufacturer: Nichicon; TemperatureRange: -40C ~ 105C; Type: Polar; Ripple Current: 637.5mA @ 120Hz; Value: 82uF; PartId: 23163; Supplier 1: Digi-Key; Supplier Part Number 1: 493-13279-3-ND; ComponentLink1Description: Datasheet; ComponentLink1URL: http://nichicon-us.com/english/products/pdfs/e-ucs.pdf; ComponentLink2Description: Digi-Key Listing; ComponentLink2URL: https://www.digikey.com/product-detail/en/nichicon/UCS2C820MHD1TO/493-13279-3-ND/4332910; Tolerance: 20%; Voltage: 160V; Price: 0.3337; Device Package: Radial, Can, 12.5mm
footprint CAP AL TH D12.5 L5 H22
pins: 1, 2

## UCS2D100MPD1TD
designator C?, comment 10uF  (value not drawn)
CAP ALUM 10UF 20% 200V RADIAL; Part Number: UCS2D100MPD1TD; Manufacturer: Nichicon; TemperatureRange: -40C ~ 105C; Type: Polar; Ripple Current: 160mA @ 120Hz; Value: 10uF; PartId: 25034; Supplier 1: Digi-Key; Supplier Part Number 1: 493-4740-3-ND; ComponentLink1Description: Datasheet; ComponentLink1URL: http://nichicon-us.com/english/products/pdfs/e-ucs.pdf; ComponentLink2Description: Digi-Key Listing; ComponentLink2URL: https://www.digikey.com/product-detail/en/nichicon/UCS2D100MPD1TD/493-4740-3-ND/3128714; Tolerance: 20%; Voltage: 200V; Price: 0.179; Device Package: Radial, Can, 10mm
footprint CAP AL TH D10 L5 H17.5
pins: 1, 2

## UCS2D101MHD1TN
designator C?, comment 100uF  (value not drawn)
CAP ALUM 100UF 20% 200V RADIAL; Part Number: UCS2D101MHD1TN; Manufacturer: Nichicon; TemperatureRange: -40C ~ 105C; Type: Polar; Ripple Current: 710mA @ 120Hz; Value: 100uF; PartId: 26375; Supplier 1: Digi-Key; Supplier Part Number 1: 493-13280-3-ND; ComponentLink1Description: Datasheet; ComponentLink1URL: http://nichicon-us.com/english/products/pdfs/e-ucs.pdf; ComponentLink2Description: Digi-Key Listing; ComponentLink2URL: https://www.digikey.com/product-detail/en/nichicon/UCS2D101MHD1TN/493-13280-3-ND/4332911; Tolerance: 20%; Voltage: 200V; Price: 0.6326; Device Package: Radial, Can, 16mm
footprint CAP AL TH D16 L7.5 H22
pins: 1, 2

## UCS2D151MHD
designator C?, comment 150uF  (value not drawn)
CAP ALUM 150UF 20% 200V RADIAL; Part Number: UCS2D151MHD; Manufacturer: Nichicon; TemperatureRange: -40C ~ 105C; Type: Polar; Ripple Current: 945mA @ 120Hz; Value: 150uF; PartId: 26615; Supplier 1: Digi-Key; Supplier Part Number 1: 493-5870-ND; ComponentLink1Description: Datasheet; ComponentLink1URL: http://nichicon-us.com/english/products/pdfs/e-ucs.pdf; ComponentLink2Description: Digi-Key Listing; ComponentLink2URL: https://www.digikey.com/product-detail/en/nichicon/UCS2D151MHD/493-5870-ND/3438504; Tolerance: 20%; Voltage: 200V; Price: 1.4; Device Package: Radial, Can, 16mm
footprint CAP AL TH D16 L7.5 H26.5
pins: 1, 2

## UCS2D220MPD1TD
designator C?, comment 22uF  (value not drawn)
CAP ALUM 22UF 20% 200V RADIAL; Part Number: UCS2D220MPD1TD; Manufacturer: Nichicon; TemperatureRange: -40C ~ 105C; Type: Polar; Ripple Current: 250mA @ 120Hz; Value: 22uF; PartId: 25759; Supplier 1: Digi-Key; Supplier Part Number 1: 493-7382-3-ND; ComponentLink1Description: Datasheet; ComponentLink1URL: http://nichicon-us.com/english/products/pdfs/e-ucs.pdf; ComponentLink2Description: Digi-Key Listing; ComponentLink2URL: https://www.digikey.com/product-detail/en/nichicon/UCS2D220MPD1TD/493-7382-3-ND/3768670; Tolerance: 20%; Voltage: 200V; Price: 0.2106; Device Package: Radial, Can, 10mm
footprint CAP AL TH D10 L5 H22
pins: 1, 2

## UCS2D330MPD
designator C?, comment 33uF  (value not drawn)
CAP ALUM 33UF 20% 200V RADIAL; Part Number: UCS2D330MPD; Manufacturer: Nichicon; TemperatureRange: -40C ~ 105C; Type: Polar; Ripple Current: 325mA @ 120Hz; Value: 33uF; PartId: 25686; Supplier 1: Digi-Key; Supplier Part Number 1: 493-4741-ND; ComponentLink1Description: Datasheet; ComponentLink1URL: http://nichicon-us.com/english/products/pdfs/e-ucs.pdf; ComponentLink2Description: Digi-Key Listing; ComponentLink2URL: https://www.digikey.com/product-detail/en/nichicon/UCS2D330MPD/493-4741-ND/3128715; Tolerance: 20%; Voltage: 200V; Price: 0.8; Device Package: Radial, Can, 10mm
footprint CAP AL TH D10 L5 H22
pins: 1, 2

## UCS2D470MHD1TO
designator C?, comment 47uF  (value not drawn)
CAP ALUM 47UF 20% 200V RADIAL; Part Number: UCS2D470MHD1TO; Manufacturer: Nichicon; TemperatureRange: -40C ~ 105C; Type: Polar; Ripple Current: 490mA @ 120Hz; Value: 47uF; PartId: 22960; Supplier 1: Digi-Key; Supplier Part Number 1: 493-4742-1-ND; ComponentLink1Description: Datasheet; ComponentLink1URL: http://nichicon-us.com/english/products/pdfs/e-ucs.pdf; ComponentLink2Description: Digi-Key Listing; ComponentLink2URL: https://www.digikey.com/product-detail/en/nichicon/UCS2D470MHD1TO/493-4742-1-ND/3128732; Tolerance: 20%; Voltage: 200V; Price: 0; Device Package: Radial, Can, 12.5mm
footprint CAP AL TH D12.5 L5 H21.5
pins: 1, 2

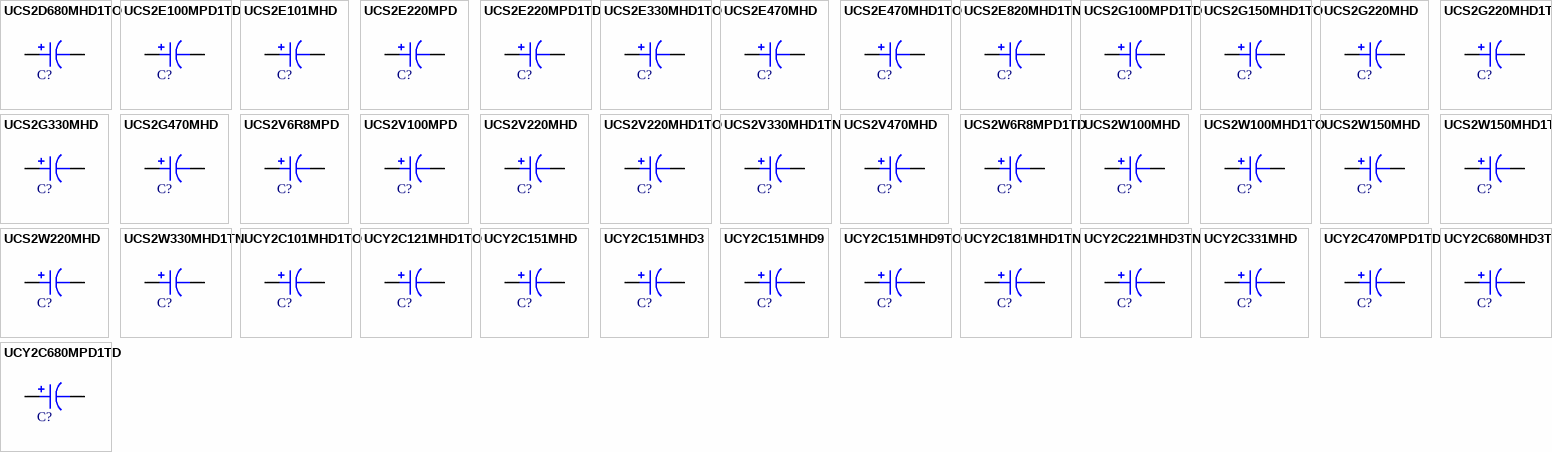
[diagram p63: symbols UCS2D680MHD1TO to UCY2C680MPD1TD]